# EAGLE library part ATXMEGA*A4U (library xmega)
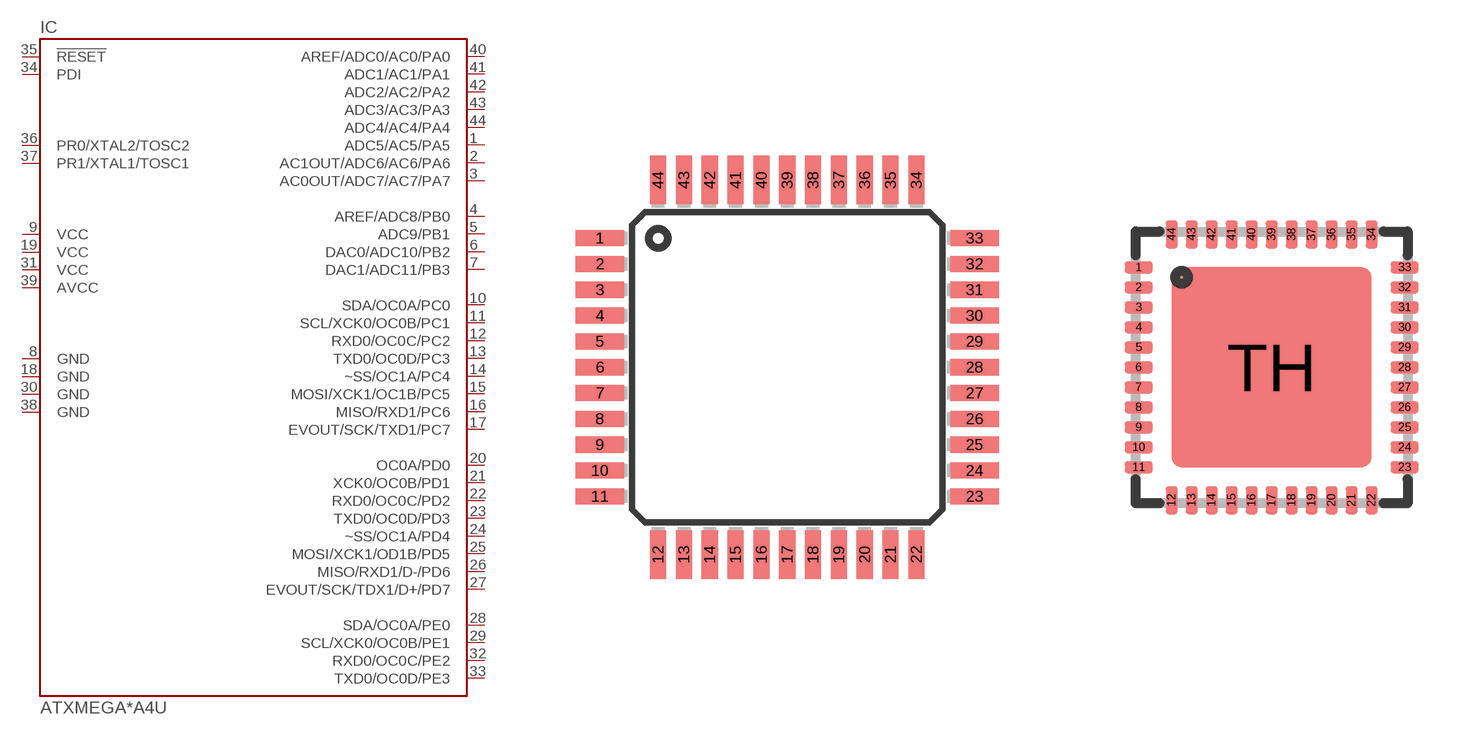
[diagram p4: symbol with the pads of TQFP44; footprints TQFP44, MLF44]

Designator prefix IC

## ATXMEGA128A4U-AU, ATXMEGA16A4U-AU, ATXMEGA32A4U-AU, ATXMEGA64A4U-AU  [TQFP44]
1  ADC5/AC5/PA5
2  AC1OUT/ADC6/AC6/PA6
3  AC0OUT/ADC7/AC7/PA7
4  AREF/ADC8/PB0
5  ADC9/PB1
6  DAC0/ADC10/PB2
7  DAC1/ADC11/PB3
8  GND  pas
9  VCC  pas
10  SDA/OC0A/PC0
11  SCL/XCK0/OC0B/PC1
12  RXD0/OC0C/PC2
13  TXD0/OC0D/PC3
14  ~SS/OC1A/PC4
15  MOSI/XCK1/OC1B/PC5
16  MISO/RXD1/PC6
17  EVOUT/SCK/TXD1/PC7
18  GND  pas
19  VCC  pas
20  OC0A/PD0
21  XCK0/OC0B/PD1
22  RXD0/OC0C/PD2
23  TXD0/OC0D/PD3
24  ~SS/OC1A/PD4
25  MOSI/XCK1/OD1B/PD5
26  MISO/RXD1/D-/PD6
27  EVOUT/SCK/TDX1/D+/PD7
28  SDA/OC0A/PE0
29  SCL/XCK0/OC0B/PE1
30  GND  pas
31  VCC  pas
32  RXD0/OC0C/PE2
33  TXD0/OC0D/PE3
34  PDI
35  !RESET  in
36  PR0/XTAL2/TOSC2  pas
37  PR1/XTAL1/TOSC1  pas
38  GND  pas
39  AVCC  pas
40  AREF/ADC0/AC0/PA0
41  ADC1/AC1/PA1
42  ADC2/AC2/PA2
43  ADC3/AC3/PA3
44  ADC4/AC4/PA4

## ATXMEGAA4U-MH, ATXMEGA128A4U-MH, ATXMEGA16A4U-MH, ATXMEGA32A4U-MH, ATXMEGA64A4U-MH  [MLF44]
Pads as for TQFP44

## ATXMEGAA4U-MH_H, ATXMEGA128A4U-MH_H, ATXMEGA16A4U-MH_H, ATXMEGA32A4U-MH_H, ATXMEGA64A4U-MH_H  [MLF44_HAND]
Pads as for TQFP44

## Footprint TQFP44 (pad centres in mm)
TQFP44 44 Lead 0.8mm Thin Plasic Quad Flat Package
smd 1.5 x 0.5: 1 -5.8,4; 2 -5.8,3.2; 3 -5.8,2.4; 4 -5.8,1.6; 5 -5.8,0.8; 6 -5.8,0; 7 -5.8,-0.8; 8 -5.8,-1.6; 9 -5.8,-2.4; 10 -5.8,-3.2; 11 -5.8,-4; 23 5.8,-4; 24 5.8,-3.2; 25 5.8,-2.4; 26 5.8,-1.6; 27 5.8,-0.8; 28 5.8,0; 29 5.8,0.8; 30 5.8,1.6; 31 5.8,2.4; 32 5.8,3.2; 33 5.8,4
smd 0.5 x 1.5: 12 -4,-5.8; 13 -3.2,-5.8; 14 -2.4,-5.8; 15 -1.6,-5.8; 16 -0.8,-5.8; 17 0,-5.8; 18 0.8,-5.8; 19 1.6,-5.8; 20 2.4,-5.8; 21 3.2,-5.8; 22 4,-5.8; 34 4,5.8; 35 3.2,5.8; 36 2.4,5.8; 37 1.6,5.8; 38 0.8,5.8; 39 0,5.8; 40 -0.8,5.8; 41 -1.6,5.8; 42 -2.4,5.8; 43 -3.2,5.8; 44 -4,5.8

## Footprint MLF44 (pad centres in mm)
44M1 44-pad 7x7x1mm, lead pitch 0.5mm Micro Lead Frame package (MLF)
smd 0.7 x 0.3: 1 -3.325,2.5; 2 -3.325,2; 3 -3.325,1.5; 4 -3.325,1; 5 -3.325,0.5; 6 -3.325,0; 7 -3.325,-0.5; 8 -3.325,-1; 9 -3.325,-1.5; 10 -3.325,-2; 11 -3.325,-2.5; 23 3.325,-2.5; 24 3.325,-2; 25 3.325,-1.5; 26 3.325,-1; 27 3.325,-0.5; 28 3.325,0; 29 3.325,0.5; 30 3.325,1; 31 3.325,1.5; 32 3.325,2; 33 3.325,2.5
smd 0.3 x 0.7: 12 -2.5,-3.325; 13 -2,-3.325; 14 -1.5,-3.325; 15 -1,-3.325; 16 -0.5,-3.325; 17 0,-3.325; 18 0.5,-3.325; 19 1,-3.325; 20 1.5,-3.325; 21 2,-3.325; 22 2.5,-3.325; 34 2.5,3.325; 35 2,3.325; 36 1.5,3.325; 37 1,3.325; 38 0.5,3.325; 39 0,3.325; 40 -0.5,3.325; 41 -1,3.325; 42 -1.5,3.325; 43 -2,3.325; 44 -2.5,3.325
smd 5 x 5: TH 0,0

## Footprint MLF44_HAND (pad centres in mm)
smd 1.5 x 0.3: 1 -3.625,2.5; 2 -3.625,2; 3 -3.625,1.5; 4 -3.625,1; 5 -3.625,0.5; 6 -3.625,0; 7 -3.625,-0.5; 8 -3.625,-1; 9 -3.625,-1.5; 10 -3.625,-2; 11 -3.625,-2.5; 23 3.625,-2.5; 24 3.625,-2; 25 3.625,-1.5; 26 3.625,-1; 27 3.625,-0.5; 28 3.625,0; 29 3.625,0.5; 30 3.625,1; 31 3.625,1.5; 32 3.625,2; 33 3.625,2.5
smd 0.3 x 1.5: 12 -2.5,-3.625; 13 -2,-3.625; 14 -1.5,-3.625; 15 -1,-3.625; 16 -0.5,-3.625; 17 0,-3.625; 18 0.5,-3.625; 19 1,-3.625; 20 1.5,-3.625; 21 2,-3.625; 22 2.5,-3.625; 34 2.5,3.625; 35 2,3.625; 36 1.5,3.625; 37 1,3.625; 38 0.5,3.625; 39 0,3.625; 40 -0.5,3.625; 41 -1,3.625; 42 -1.5,3.625; 43 -2,3.625; 44 -2.5,3.625
smd 5 x 5: TH 0,0